# EAGLE library part 525ПС2 (library 525)
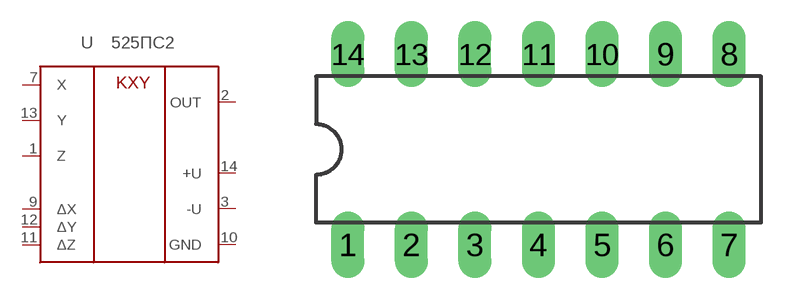
[diagram p0: symbol with the pads of DIL14; footprint DIL14]

Designator prefix -

## 525ПС2  [DIL14]
1  Z  in
2  OUT  out
3  -U  pwr
7  X  in
9  ΔX  in
10  GND  pwr
11  ΔZ  in
12  ΔY  in
13  Y  in
14  +U  pwr

## Footprint DIL14 (pad centres in mm)
Dual In Line Package
drill 0.813 long: 1 -7.62,-3.81; 2 -5.08,-3.81; 3 -2.54,-3.81; 4 0,-3.81; 5 2.54,-3.81; 6 5.08,-3.81; 7 7.62,-3.81; 8 7.62,3.81; 9 5.08,3.81; 10 2.54,3.81; 11 0,3.81; 12 -2.54,3.81; 13 -5.08,3.81; 14 -7.62,3.81